# Altium integrated library M2maleDouble_M2female.IntLib: 2 symbols
Pins are listed as number, name and electrical type; pins without a type are passive.

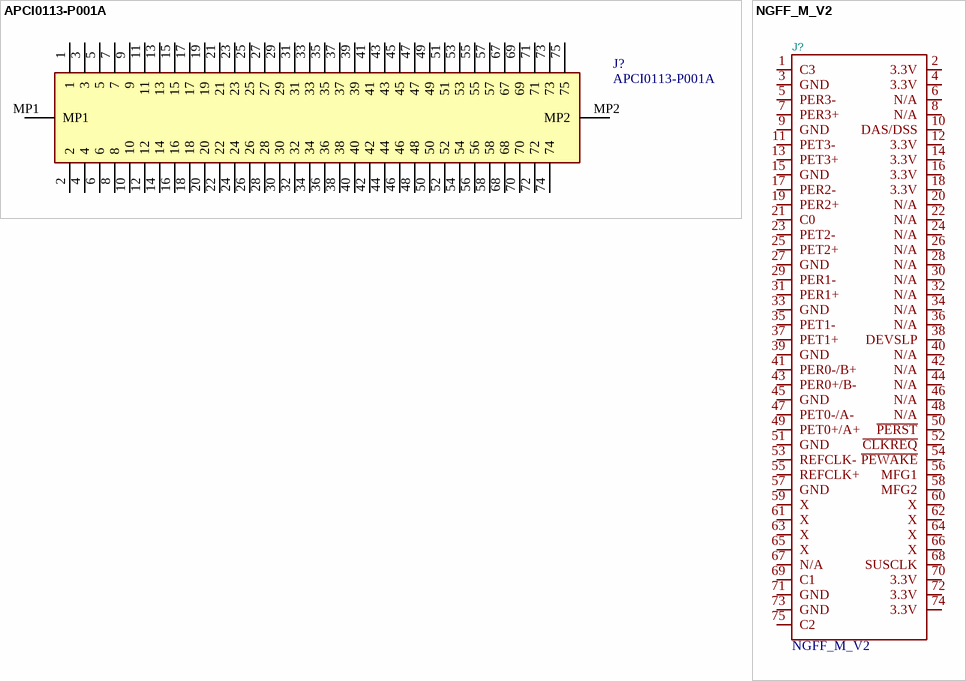
[diagram p0: symbols APCI0113-P001A to NGFF_M_V2]

## APCI0113-P001A
designator J?
Connector; Manufacturer_Name: LOTES; Datasheet Link: https://www.lcsc.com/datasheet/lcsc_datasheet_2010161204_LOTES-APCI0113-P001A_C841669.pdf; Height: 4.8mm; Manufacturer_Part_Number: APCI0113-P001A
footprint APCI0113P001A
pins: 1, 2, 3, 4, 5, 6, 7, 8, 9, 10, 11, 12, 13, 14, 15, 16, 17, 18, 19, 20, 21, 22, 23, 24, 25, 26, 27, 28, 29, 30, 31, 32, 33, 34, 35, 36, 37, 38, 39, 40, 41, 42, 43, 44, 45, 46, 47, 48, 49, 50, 51, 52, 53, 54, 55, 56, 57, 58, 67, 68, 69, 70, 71, 72, 73, 74, 75, MP1, MP2

## NGFF_M_V2
designator J?
footprint M.2-M-KEY-2280-V2 (M.2-KEY-M)
pins: 1 C3, 2 3.3V, 3 GND, 4 3.3V, 5 PER3-, 6 N/A, 7 PER3+, 8 N/A, 9 GND, 10 DAS/DSS, 11 PET3-, 12 3.3V, 13 PET3+, 14 3.3V, 15 GND, 16 3.3V, 17 PER2-, 18 3.3V, 19 PER2+, 20 N/A, 21 C0, 22 N/A, 23 PET2-, 24 N/A, 25 PET2+, 26 N/A, 27 GND, 28 N/A, 29 PER1-, 30 N/A, 31 PER1+, 32 N/A, 33 GND, 34 N/A, 35 PET1-, 36 N/A, 37 PET1+, 38 DEVSLP, 39 GND, 40 N/A, 41 PER0-/B+, 42 N/A, 43 PER0+/B-, 44 N/A, 45 GND, 46 N/A, 47 PET0-/A-, 48 N/A, 49 PET0+/A+, 50 ~{PERST}, 51 GND, 52 ~{CLKREQ}, 53 REFCLK-, 54 ~{PEWAKE}, 55 REFCLK+, 56 MFG1, 57 GND, 58 MFG2, 59 X, 60 X, 61 X, 62 X, 63 X, 64 X, 65 X, 66 X, 67 N/A, 68 SUSCLK, 69 C1, 70 3.3V, 71 GND, 72 3.3V, 73 GND, 74 3.3V, 75 C2